# Altium footprint library Buttons.PcbLib: 2 footprints
Each footprint in its own frame and in the unit in brackets; x right, y up, seen from the top. Pads: shape width x height; smd on the part's side, far side on the other; paste and mask are expansions set on the pad; w line width, h text height; cw(c..) or ccw(c..) is an arc to the next point about the centre after c.
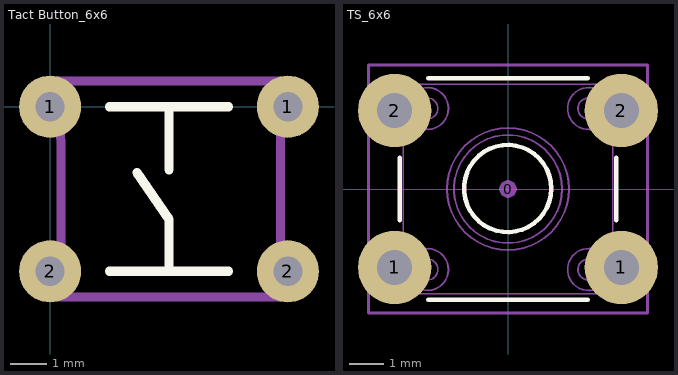
[diagram p0: the footprints below, top view; thin cyan lines are the x and y axes]

## Tact Button_6x6 [mm] "6x6 mm"
pads (4):
  round 1.7 hole 0.8: 1(0,0) 1(6.5,0) 2(0,-4.5) 2(6.5,-4.5)
Top Overlay:
  lines w0.254: 1.625,-4.5 4.875,-4.5 ; 1.625,0 4.875,0 ; 2.375,-1.8 3.25,-3.075 3.25,-4.5 ; 3.25,-1.725 3.25,0
Mechanical 3:
  lines w0.254: 1,-5.2 5.5,-5.2 ; 1,0.7 5.5,0.7 ; 6.3,-3.5 6.3,-1 ; 0.2,0.7 0.3,-1 0.3,-3.5 0.3,-5.2 6.3,-5.2 6.3,0.7 0.2,0.7
3D body "User Library-TPxxxx (Switch).STEP": height 5.4, standoff -3.09, extent -0.7,-5.25 7.278,0.75

## TS_6x6 [mm] "6.5x6.5mm SMD tact switch 4.3mm stem"
height 5
pads (5):
  round 0.508 on Mech15: 0(0,0)
  round 2.1 hole 1: 1(-3.25,-2.25) 1(3.25,-2.25) 2(-3.25,2.25) 2(3.25,2.25)
Top Overlay:
  circle w0.127: c-0.011,0.014 r1.25
  lines w0.127: -3.1,-0.9 -3.1,0.9 ; -2.286,-3.175 2.286,-3.175 ; -2.286,3.175 2.286,3.175 ; 3.1,-0.9 3.1,0.9
Mechanical 13:
  circle w0.05: c0,0 r1.55
  circle w0.05: c0,0 r1.75
  circle w0.05: c-2.31,2.309 r0.3
  circle w0.05: c2.307,2.309 r0.3
  circle w0.05: c-2.31,-2.308 r0.3
  circle w0.05: c2.307,-2.308 r0.3
  circle w0.05: c2.309,2.309 r0.6
  circle w0.05: c-2.309,2.309 r0.6
  circle w0.05: c2.309,-2.309 r0.6
  circle w0.05: c-2.309,-2.309 r0.6
  lines w0.05: -3.886,-2.65 -3.886,-1.85 ; -3.886,1.85 -3.886,2.65 ; -3.3,-2.65 -3.3,-1.85 ; -3.3,1.85 -3.3,2.65 ; -3.15,-2.65 -3.15,-1.85 ; -3.15,1.85 -3.15,2.65 ; -3,-2.65 -3.95,-2.65 -3.95,-1.85 -3,-1.85 ; -3,1.85 -3.95,1.85 -3.95,2.65 -3,2.65 ; -2.561,-2.853 ccw(c-2.309,-2.309) -2.538,-2.863 ; -2.561,1.764 ccw(c-2.309,2.309) -2.538,1.754 ; 2.056,-2.853 ccw(c2.309,-2.309) 2.079,-2.863 ; 2.056,1.764 ccw(c2.309,2.309) 2.079,1.754 ; 3,-2.65 3.95,-2.65 3.95,-1.85 3,-1.85 ; 3,1.85 3.95,1.85 3.95,2.65 3,2.65 ; 3.15,-2.65 3.15,-1.85 ; 3.15,1.85 3.15,2.65 ; 3.3,-2.65 3.3,-1.85 ; 3.3,1.85 3.3,2.65 ; 3.886,-2.65 3.886,-1.85 ; 3.886,1.85 3.886,2.65 ; -3,-3 -3,3 3,3 3,-3 -3,-3
Mechanical 15:
  lines w0.076: -4,-3.556 -4,3.556 4,3.556 4,-3.556 -4,-3.556
3D body "TACT_SWITCH_TL-1105-C.STEP": height 8, standoff -3.5, extent -3.95,-3 3.95,3